# EAGLE library part LM5109A (library my library)
Half bridge driver
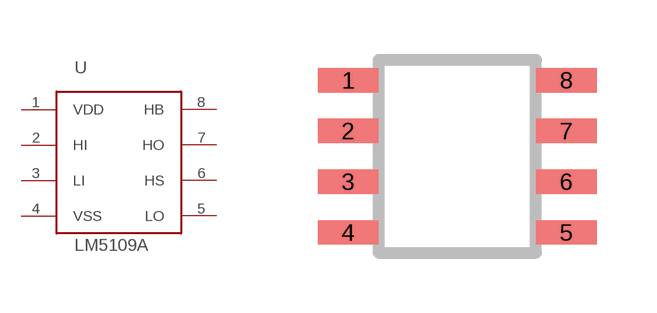
[diagram p4: symbol with the pads of SOIC-8; footprint SOIC-8]

Designator prefix -

## LM5109A  [SOIC-8]
1  VDD
2  HI
3  LI
4  VSS
5  LO
6  HS
7  HO
8  HB

## Footprint SOIC-8 (pad centres in mm)
smd 1.524 x 0.61: 1 0,3.81; 2 0,2.54; 3 0,1.27; 4 0,0; 5 5.461,0; 6 5.461,1.27; 7 5.461,2.54; 8 5.461,3.81